# Altium footprint library 7447709150.PcbLib: 1 footprints
Each footprint in its own frame and in the unit in brackets; x right, y up, seen from the top. Pads: shape width x height; smd on the part's side, far side on the other; paste and mask are expansions set on the pad; w line width, h text height; cw(c..) or ccw(c..) is an arc to the next point about the centre after c.
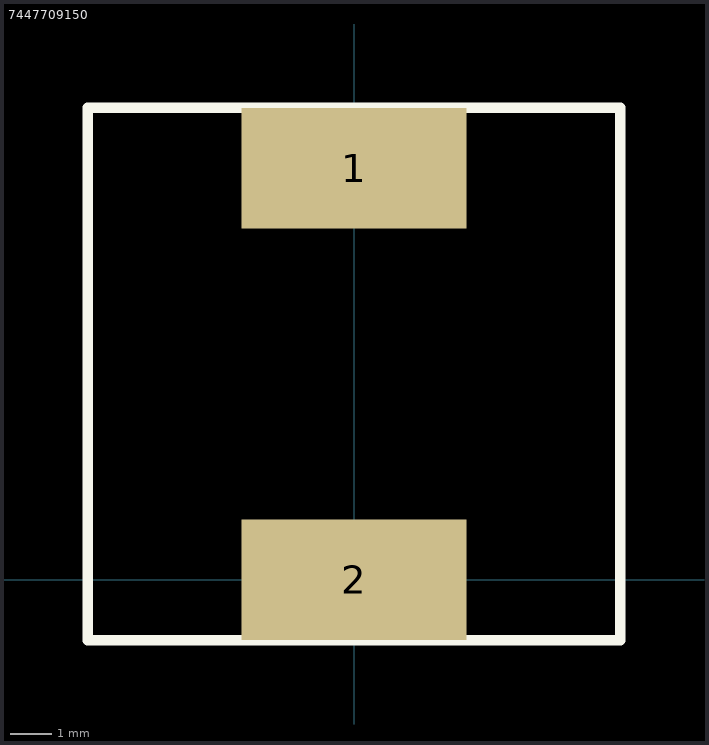
[diagram p0: the footprint, top view; thin cyan lines are the x and y axes]

## 7447709150 [mm] "Fixed Inductor 7447709150"
pads (2):
  rect 5.4x2.9 smd: 1(0,9.9) 2(0,0)
Top Overlay:
  lines w0.254: -6.4,-1.45 6.4,-1.45 6.4,11.35 -6.4,11.35 -6.4,-1.45